# EAGLE library part TC2050-IDC (library tag-connect)
TC2050-IDC Tag Connect Plug-of-Nails™
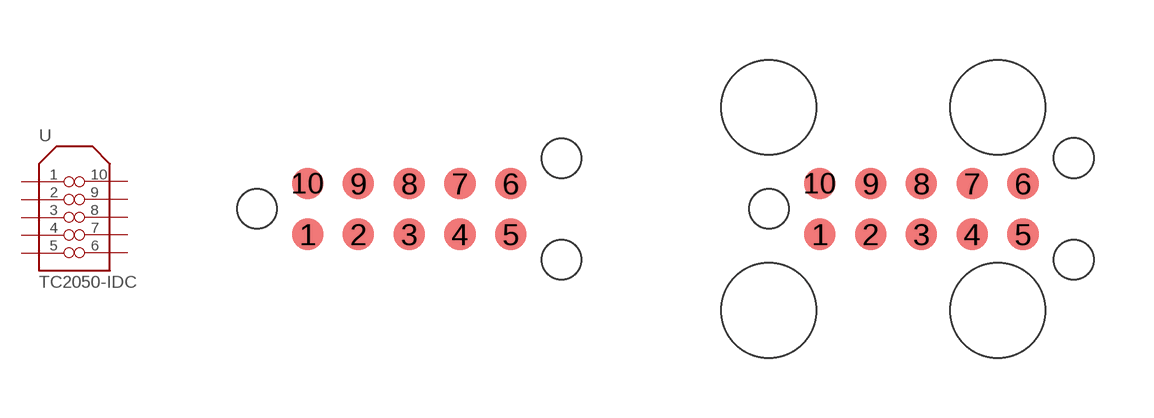
[diagram p0: symbol with the pads of TC2050-IDC-NL; footprints TC2050-IDC-NL, TC2050-IDC]

Designator prefix -

## TC2050-IDC-NL  [TC2050-IDC-NL]
1  1  pas
2  2  pas
3  3  pas
4  4  pas
5  5  pas
6  6  pas
7  7  pas
8  8  pas
9  9  pas
10  10  pas

## TC2050-IDC  [TC2050-IDC]
Pads as for TC2050-IDC-NL

## Footprint TC2050-IDC-NL (pad centres in mm)
TAG Connect 10-pin footprint
smd 0.787 x 0.787: 1 0,0; 2 1.27,0; 3 2.54,0; 4 3.81,0; 5 5.08,0; 6 5.08,1.27; 7 3.81,1.27; 8 2.54,1.27; 9 1.27,1.27; 10 0,1.27
hole 0.991 at -1.27,0.635
hole 0.991 at 6.35,1.905
hole 0.991 at 6.35,-0.635

## Footprint TC2050-IDC (pad centres in mm)
smd 0.787 x 0.787: 1 0,0; 2 1.27,0; 3 2.54,0; 4 3.81,0; 5 5.08,0; 6 5.08,1.27; 7 3.81,1.27; 8 2.54,1.27; 9 1.27,1.27; 10 0,1.27
hole 0.991 at -1.27,0.635
hole 0.991 at 6.35,1.905
hole 0.991 at 6.35,-0.635
hole 2.375 at -1.27,3.175
hole 2.375 at -1.27,-1.905
hole 2.375 at 4.445,-1.905
hole 2.375 at 4.445,3.175